# Altium footprint library LCD dip.PcbLib: 1 footprints
Each footprint in its own frame and in the unit in brackets; x right, y up, seen from the top. Pads: shape width x height; smd on the part's side, far side on the other; paste and mask are expansions set on the pad; w line width, h text height; cw(c..) or ccw(c..) is an arc to the next point about the centre after c.
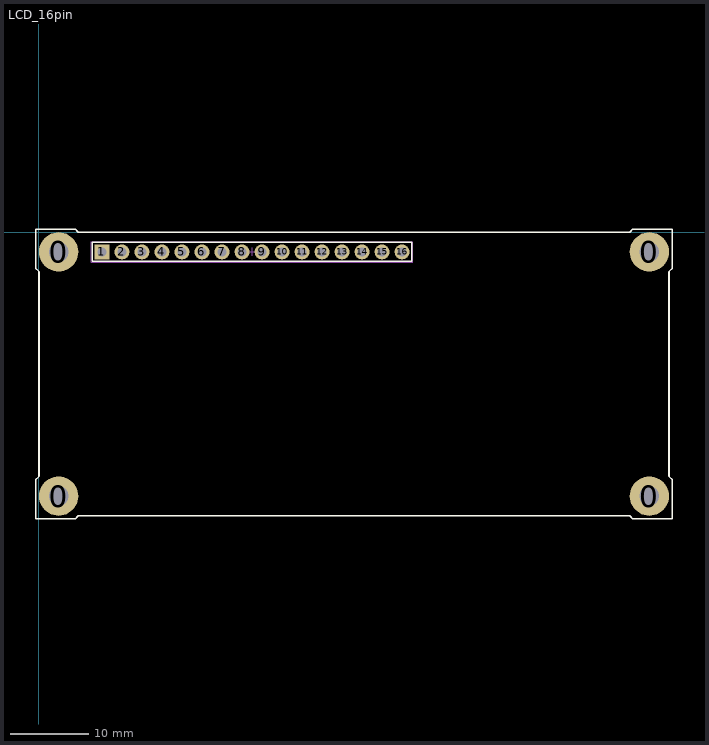
[diagram p0: the footprint, top view; thin cyan lines are the x and y axes]

## LCD_16pin [mm]
pads (20):
  round 5 hole 2.5: 0(2.5,-33.5) 0(2.5,-2.5) 0(77.5,-33.5) 0(77.5,-2.5)
  rect 1.905x1.905 hole 1.143: 1(8,-2.5)
  round 1.905 hole 1.143: 2(10.54,-2.5) 3(13.08,-2.5) 4(15.62,-2.5) 5(18.16,-2.5) 6(20.7,-2.5) 7(23.24,-2.5) 8(25.78,-2.5) 9(28.32,-2.5) 10(30.86,-2.5) 11(33.4,-2.5) 12(35.94,-2.5) 13(38.48,-2.5) 14(41.02,-2.5) 15(43.56,-2.5) 16(46.1,-2.5)
Top Overlay:
  lines w0.16: 6.75,-3.7 47.35,-3.7 47.35,-1.3 6.75,-1.3 6.75,-3.7
  lines w0.2: -0.4,-36.4 4.6,-36.4 5,-36 75,-36 75.4,-36.4 80.4,-36.4 80.4,-31.4 80,-31 80,-5 80.4,-4.6 80.4,0.4 75.4,0.4 75,0 5,0 4.6,0.4 -0.4,0.4 -0.4,-4.6 0,-5 0,-31 -0.4,-31.4 -0.4,-36.4
Mechanical 11:
  lines w0.1: 6.65,-3.8 47.45,-3.8 47.45,-1.2 6.65,-1.2 6.65,-3.8
Mechanical 15:
  lines w0.1: 26.55,-2.5 27.55,-2.5 ; 27.05,-3 27.05,-2
3D body "BTB 1x16 Pin Header; Vertical; 2.54mm; THT.stp": height 8.57, standoff -2.97, extent 6.73,-3.77 47.37,-1.23